# EAGLE library part TBD62783AFG (library DIY)
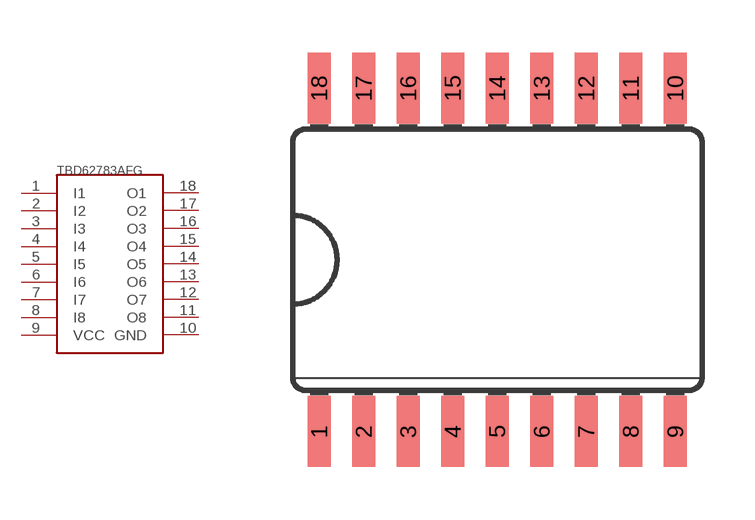
[diagram p0: symbol with the pads of SO8-L; footprint SO8-L]

Designator prefix -

## TBD62783AFG  [SO8-L]
1  I1
2  I2
3  I3
4  I4
5  I5
6  I6
7  I7
8  I8
9  VCC
10  GND
11  O8
12  O7
13  O6
14  O5
15  O4
16  O3
17  O2
18  O1

## Footprint SO8-L (pad centres in mm)
smd 0.66 x 2.032: 1 -5.08,-4.902; 2 -3.81,-4.902; 3 -2.54,-4.902; 4 -1.27,-4.902; 5 0,-4.902; 6 1.27,-4.902; 7 2.54,-4.902; 8 3.81,-4.902; 9 5.08,-4.902; 10 5.08,4.902; 11 3.81,4.902; 12 2.54,4.902; 13 1.27,4.902; 14 0,4.902; 15 -1.27,4.902; 16 -2.54,4.902; 17 -3.81,4.902; 18 -5.08,4.902